# EAGLE library part FT230X (library ic-FTDI)
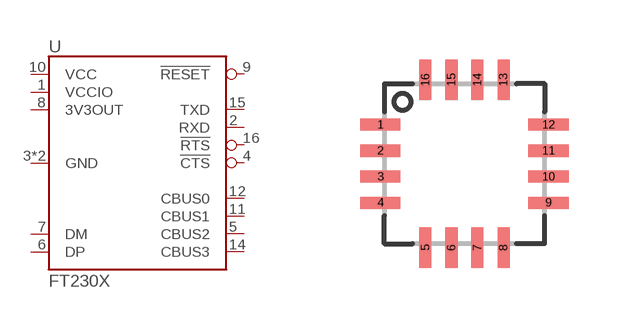
[diagram p3: symbol with the pads of QFN16-0.65-NOPAD; footprint QFN16-0.65-NOPAD]

Designator prefix U

## FT230XQ  [QFN16-0.65-NOPAD]
1  VCCIO
2  RXD
3  GND
4  !CTS
5  CBUS2
6  DP
7  DM
8  3V3OUT
9  !RESET
10  VCC
11  CBUS1
12  CBUS0
13  GND
14  CBUS3
15  TXD
16  !RTS

## Footprint QFN16-0.65-NOPAD (pad centres in mm)
smd 1 x 0.3: 1 -2.1,0.975; 2 -2.1,0.325; 3 -2.1,-0.325; 4 -2.1,-0.975; 9 2.1,-0.975; 10 2.1,-0.325; 11 2.1,0.325; 12 2.1,0.975
smd 0.3 x 1: 5 -0.975,-2.1; 6 -0.325,-2.1; 7 0.325,-2.1; 8 0.975,-2.1; 13 0.975,2.1; 14 0.325,2.1; 15 -0.325,2.1; 16 -0.975,2.1